# Altium schematic symbol library OJ-SH.SchLib: 1 symbol
Pins are listed as number, name and electrical type; pins without a type are passive.

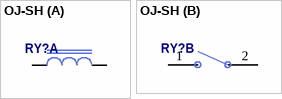
[diagram p0: symbol OJ-SH]

## OJ-SH
designator RY?  (value not drawn)
part A pins: 3, 4
part B pins: 1 NC2, 2 COM2